# Altium footprint library PowerBoard.PcbLib: 4 footprints
Each footprint in its own frame and in the unit in brackets; x right, y up, seen from the top. Pads: shape width x height; smd on the part's side, far side on the other; paste and mask are expansions set on the pad; w line width, h text height; cw(c..) or ccw(c..) is an arc to the next point about the centre after c.
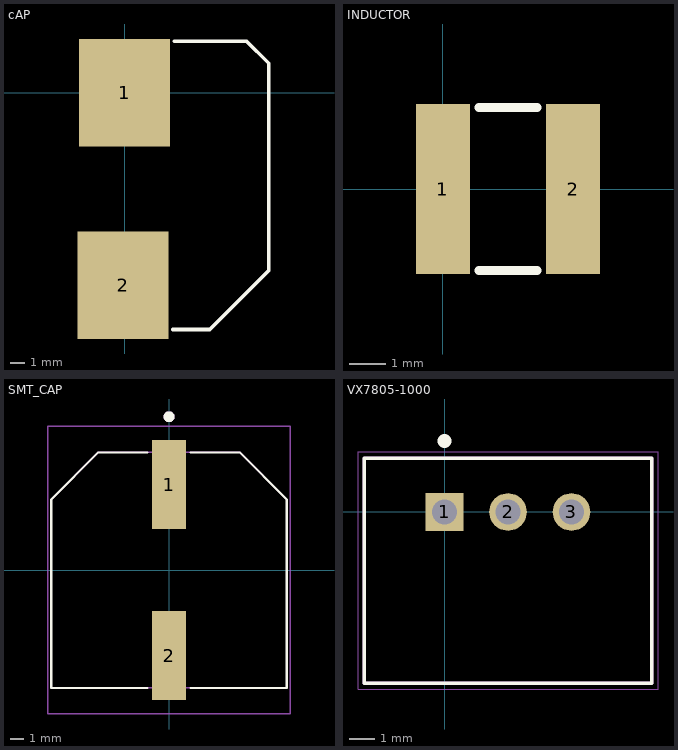
[diagram p0: the footprints below, top view; thin cyan lines are the x and y axes]

## cAP [mm] "Aluminum Electrolytic Capacitor"
pads (2):
  rect 6.2x7.3 smd: 1(0,0) 2(-0.102,-13.1)
Top Layer keep-out:
  region: 7,-4
Top Overlay:
  lines w0.25: 3.3,-16.1 5.8,-16.1 9.8,-12.1 9.8,0.8 9.8,2 8.3,3.5 3.4,3.5

## INDUCTOR [mm]
pads (2):
  rect 1.5x4.7 smd: 1(0,0) 2(3.6,0)
Top Overlay:
  lines w0.25: 1,-2.26 2.6,-2.26 ; 1,2.26 2.6,2.26

## SMT_CAP [mm]
pads (2):
  rect 2.5x6.5 smd: 1(0,6.25) 2(0,-6.25)
Top Overlay:
  circle w0.4: c0,11.2 r0.2
  lines w0.154: -1.57,-8.6 -8.6,-8.6 -8.6,5.16 -5.16,8.6 -1.57,8.6 ; 1.57,-8.6 8.6,-8.6 8.6,5.16 5.16,8.6 1.57,8.6
Mechanical 4:
  circle w0.4: c0,11.2 r0.2
  circle w0.4: c0,11.2 r0.2
  lines w0.127: -8.6,-8.6 -8.6,5.16 ; -8.6,-8.6 8.6,-8.6 ; -8.6,-8.6 -8.6,5.16 ; -8.6,-8.6 8.6,-8.6 ; -8.6,5.16 -5.16,8.6 ; -8.6,5.16 -5.16,8.6 ; -5.16,8.6 5.16,8.6 ; -5.16,8.6 5.16,8.6 ; 5.16,8.6 8.6,5.16 ; 5.16,8.6 8.6,5.16 ; 8.6,-8.6 8.6,5.16 ; 8.6,-8.6 8.6,5.16
Mechanical 16:
  lines w0.1: -8.85,-10.51 8.85,-10.51 8.85,10.51 -8.85,10.51 -8.85,-10.51

## VX7805-1000 [mm] "Non-Isolated DC-DC Convertor"
pads (3):
  rect 1.508x1.508 hole 1: 1(0,0)
  round 1.508 hole 1: 2(2.54,0) 3(5.08,0)
Top Overlay:
  circle w0.35: c0,2.84 r0.1
  circle w0.35: c0,2.84 r0.1
  lines w0.127: -3.21,-6.85 -3.21,2.15 8.29,2.15 8.29,-6.85 -3.21,-6.85
Mechanical 4:
  circle w0.35: c0,0.046 r0.1
  circle w0.35: c0,0.046 r0.1
  lines w0.127: -3.21,-6.85 -3.21,2.15 ; -3.21,-6.85 8.29,-6.85 ; -3.21,-6.85 -3.21,2.15 ; -3.21,-6.85 8.29,-6.85 ; -3.21,2.15 8.29,2.15 ; -3.21,2.15 8.29,2.15 ; 8.29,-6.85 8.29,2.15 ; 8.29,-6.85 8.29,2.15
Mechanical 16:
  lines w0.05: -3.46,-7.1 -3.46,2.4 8.54,2.4 8.54,-7.1 -3.46,-7.1
3D body "V7805W-500--3DModel-STEP-56544.STEP": height 17.64, standoff -3.96, extent -3.21,-6.837 8.29,2.163